# EAGLE library part MIMXRT117HDVMAA (library ICs)
ARM® Cortex®-M4, Cortex®-M7 RT1170 Microcontroller IC 32-Bit Dual-Core 400MHz, 1GHz 256KB (256K x 8) ROM 289-LFBGA (14x14)
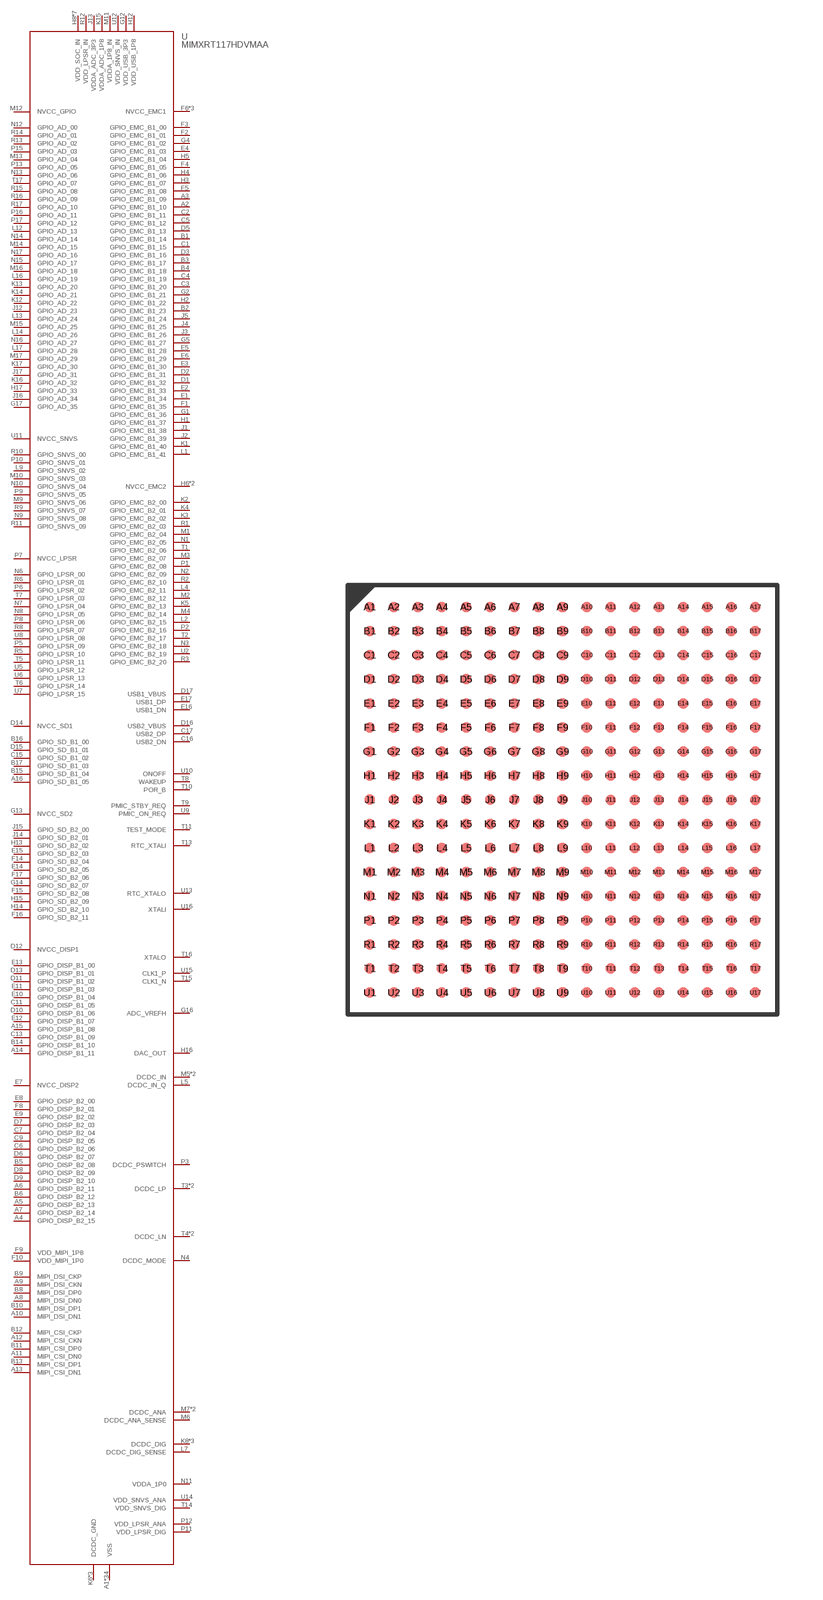
[diagram p312: symbol with the pads of MAPBGA289; footprint MAPBGA289]

Designator prefix U

## MIMXRT117HDVMAA (DIGIKEY: 568-MIMXRT117HDVMAA-ND; HEIGHT: 1.4; PRICE_PER: 22.97; VALUE: MIMXRT117HDVMAA)  [MAPBGA289]
A1  VSS  pas
A2  GPIO_EMC_B1_10  pas
A3  GPIO_EMC_B1_09  pas
A4  GPIO_DISP_B2_15  pas
A5  GPIO_DISP_B2_13  pas
A6  GPIO_DISP_B2_11  pas
A7  GPIO_DISP_B2_14  pas
A8  MIPI_DSI_DN0  pas
A9  MIPI_DSI_CKN  pas
A10  MIPI_DSI_DN1  pas
A11  MIPI_CSI_DN0  pas
A12  MIPI_CSI_CKN  pas
A13  MIPI_CSI_DN1  pas
A14  GPIO_DISP_B1_11  pas
A15  GPIO_DISP_B1_08  pas
A16  GPIO_SD_B1_05  pas
A17  VSS  pas
B1  GPIO_EMC_B1_14  pas
B2  GPIO_EMC_B1_23  pas
B3  GPIO_EMC_B1_17  pas
B4  GPIO_EMC_B1_18  pas
B5  GPIO_DISP_B2_08  pas
B6  GPIO_DISP_B2_12  pas
B7  VSS  pas
B8  MIPI_DSI_DP0  pas
B9  MIPI_DSI_CKP  pas
B10  MIPI_DSI_DP1  pas
B11  MIPI_CSI_DP0  pas
B12  MIPI_CSI_CKP  pas
B13  MIPI_CSI_DP1  pas
B14  GPIO_DISP_B1_10  pas
B15  GPIO_SD_B1_04  pas
B16  GPIO_SD_B1_00  pas
B17  GPIO_SD_B1_03  pas
C1  GPIO_EMC_B1_15  pas
C2  GPIO_EMC_B1_11  pas
C3  GPIO_EMC_B1_20  pas
C4  GPIO_EMC_B1_19  pas
C5  GPIO_EMC_B1_12  pas
C6  GPIO_DISP_B2_06  pas
C7  GPIO_DISP_B2_04  pas
C8  VSS  pas
C9  GPIO_DISP_B2_05  pas
C10  VSS  pas
C11  GPIO_DISP_B1_05  pas
C12  VSS  pas
C13  GPIO_DISP_B1_09  pas
C14  VSS  pas
C15  GPIO_SD_B1_02  pas
C16  USB2_DN  pas
C17  USB2_DP  pas
D1  GPIO_EMC_B1_32  pas
D2  GPIO_EMC_B1_31  pas
D3  GPIO_EMC_B1_16  pas
D4  VSS  pas
D5  GPIO_EMC_B1_13  pas
D6  GPIO_DISP_B2_07  pas
D7  GPIO_DISP_B2_03  pas
D8  GPIO_DISP_B2_09  pas
D9  GPIO_DISP_B2_10  pas
D10  GPIO_DISP_B1_06  pas
D11  GPIO_DISP_B1_02  pas
D12  NVCC_DISP1  pas
D13  GPIO_DISP_B1_01  pas
D14  NVCC_SD1  pas
D15  GPIO_SD_B1_01  pas
D16  USB2_VBUS  pas
D17  USB1_VBUS  pas
E1  GPIO_EMC_B1_34  pas
E2  GPIO_EMC_B1_33  pas
E3  GPIO_EMC_B1_30  pas
E4  GPIO_EMC_B1_03  pas
E5  GPIO_EMC_B1_28  pas
E6  GPIO_EMC_B1_29  pas
E7  NVCC_DISP2  pas
E8  GPIO_DISP_B2_00  pas
E9  GPIO_DISP_B2_02  pas
E10  GPIO_DISP_B1_04  pas
E11  GPIO_DISP_B1_03  pas
E12  GPIO_DISP_B1_07  pas
E13  GPIO_DISP_B1_00  pas
E14  GPIO_SD_B2_05  pas
E15  GPIO_SD_B2_03  pas
E16  USB1_DN  pas
E17  USB1_DP  pas
F1  GPIO_EMC_B1_35  pas
F2  GPIO_EMC_B1_01  pas
F3  GPIO_EMC_B1_00  pas
F4  GPIO_EMC_B1_05  pas
F5  GPIO_EMC_B1_08  pas
F6  NVCC_EMC1  pas
F7  NVCC_EMC1  pas
F8  GPIO_DISP_B2_01  pas
F9  VDD_MIPI_1P8  pas
F10  VDD_MIPI_1P0  pas
F11  VSS  pas
F12  VSS  pas
F13  VSS  pas
F14  GPIO_SD_B2_04  pas
F15  GPIO_SD_B2_08  pas
F16  GPIO_SD_B2_11  pas
F17  GPIO_SD_B2_06  pas
G1  GPIO_EMC_B1_36  pas
G2  GPIO_EMC_B1_21  pas
G3  VSS  pas
G4  GPIO_EMC_B1_02  pas
G5  GPIO_EMC_B1_27  pas
G6  NVCC_EMC1  pas
G7  VSS  pas
G8  VSS  pas
G9  VSS  pas
G10  VSS  pas
G11  VSS  pas
G12  VDD_USB_3P3  pas
G13  NVCC_SD2  pas
G14  GPIO_SD_B2_07  pas
G15  VSS  pas
G16  ADC_VREFH  pas
G17  GPIO_AD_35  pas
H1  GPIO_EMC_B1_37  pas
H2  GPIO_EMC_B1_22  pas
H3  GPIO_EMC_B1_07  pas
H4  GPIO_EMC_B1_06  pas
H5  GPIO_EMC_B1_04  pas
H6  NVCC_EMC2  pas
H7  VSS  pas
H8  VDD_SOC_IN  pas
H9  VDD_SOC_IN  pas
H10  VDD_SOC_IN  pas
H11  VSS  pas
H12  VDD_USB_1P8  pas
H13  GPIO_SD_B2_02  pas
H14  GPIO_SD_B2_10  pas
H15  GPIO_SD_B2_09  pas
H16  DAC_OUT  pas
H17  GPIO_AD_33  pas
J1  GPIO_EMC_B1_38  pas
J2  GPIO_EMC_B1_39  pas
J3  GPIO_EMC_B1_26  pas
J4  GPIO_EMC_B1_25  pas
J5  GPIO_EMC_B1_24  pas
J6  NVCC_EMC2  pas
J7  VSS  pas
J8  VDD_SOC_IN  pas
J9  VDD_SOC_IN  pas
J10  VDD_SOC_IN  pas
J11  VSS  pas
J12  GPIO_AD_23  pas
J13  VDDA_ADC_3P3  pas
J14  GPIO_SD_B2_01  pas
J15  GPIO_SD_B2_00  pas
J16  GPIO_AD_34  pas
J17  GPIO_AD_31  pas
K1  GPIO_EMC_B1_40  pas
K2  GPIO_EMC_B2_00  pas
K3  GPIO_EMC_B2_02  pas
K4  GPIO_EMC_B2_01  pas
K5  GPIO_EMC_B2_13  pas
K6  DCDC_GND  pas
K7  DCDC_GND  pas
K8  DCDC_DIG  pas
K9  DCDC_DIG  pas
K10  VDD_SOC_IN  pas
K11  VSS  pas
K12  GPIO_AD_22  pas
K13  GPIO_AD_20  pas
K14  GPIO_AD_21  pas
K15  VDDA_ADC_1P8  pas
K16  GPIO_AD_32  pas
K17  GPIO_AD_30  pas
L1  GPIO_EMC_B1_41  pas
L2  GPIO_EMC_B2_15  pas
L3  VSS  pas
L4  GPIO_EMC_B2_11  pas
L5  DCDC_IN_Q  pas
L6  DCDC_GND  pas
L7  DCDC_DIG_SENSE  pas
L8  DCDC_DIG  pas
L9  GPIO_SNVS_02  pas
L10  VSS  pas
L11  VSS  pas
L12  GPIO_AD_13  pas
L13  GPIO_AD_24  pas
L14  GPIO_AD_26  pas
L15  VSS  pas
L16  GPIO_AD_19  pas
L17  GPIO_AD_28  pas
M1  GPIO_EMC_B2_04  pas
M2  GPIO_EMC_B2_12  pas
M3  GPIO_EMC_B2_07  pas
M4  GPIO_EMC_B2_14  pas
M5  DCDC_IN  pas
M6  DCDC_ANA_SENSE  pas
M7  DCDC_ANA  pas
M8  DCDC_ANA  pas
M9  GPIO_SNVS_06  pas
M10  GPIO_SNVS_03  pas
M11  VDDA_1P8_IN  pas
M12  NVCC_GPIO  pas
M13  GPIO_AD_04  pas
M14  GPIO_AD_15  pas
M15  GPIO_AD_25  pas
M16  GPIO_AD_18  pas
M17  GPIO_AD_29  pas
N1  GPIO_EMC_B2_05  pas
N2  GPIO_EMC_B2_09  pas
N3  GPIO_EMC_B2_18  pas
N4  DCDC_MODE  pas
N5  DCDC_IN  pas
N6  GPIO_LPSR_00  pas
N7  GPIO_LPSR_04  pas
N8  GPIO_LPSR_05  pas
N9  GPIO_SNVS_08  pas
N10  GPIO_SNVS_04  pas
N11  VDDA_1P0  pas
N12  GPIO_AD_00  pas
N13  GPIO_AD_06  pas
N14  GPIO_AD_14  pas
N15  GPIO_AD_17  pas
N16  GPIO_AD_27  pas
N17  GPIO_AD_16  pas
P1  GPIO_EMC_B2_08  pas
P2  GPIO_EMC_B2_16  pas
P3  DCDC_PSWITCH  pas
P4  VSS  pas
P5  GPIO_LPSR_09  pas
P6  GPIO_LPSR_02  pas
P7  NVCC_LPSR  pas
P8  GPIO_LPSR_06  pas
P9  GPIO_SNVS_05  pas
P10  GPIO_SNVS_01  pas
P11  VDD_LPSR_DIG  pas
P12  VDD_LPSR_ANA  pas
P13  GPIO_AD_05  pas
P14  VSS  pas
P15  GPIO_AD_03  pas
P16  GPIO_AD_11  pas
P17  GPIO_AD_12  pas
R1  GPIO_EMC_B2_03  pas
R2  GPIO_EMC_B2_10  pas
R3  GPIO_EMC_B2_20  pas
R4  VSS  pas
R5  GPIO_LPSR_10  pas
R6  GPIO_LPSR_01  pas
R7  VSS  pas
R8  GPIO_LPSR_07  pas
R9  GPIO_SNVS_07  pas
R10  GPIO_SNVS_00  pas
R11  GPIO_SNVS_09  pas
R12  VDD_LPSR_IN  pas
R13  GPIO_AD_02  pas
R14  GPIO_AD_01  pas
R15  GPIO_AD_08  pas
R16  GPIO_AD_09  pas
R17  GPIO_AD_10  pas
T1  GPIO_EMC_B2_06  pas
T2  GPIO_EMC_B2_17  pas
T3  DCDC_LP  pas
T4  DCDC_LN  pas
T5  GPIO_LPSR_11  pas
T6  GPIO_LPSR_14  pas
T7  GPIO_LPSR_03  pas
T8  WAKEUP  pas
T9  PMIC_STBY_REQ  pas
T10  POR_B  pas
T11  TEST_MODE  pas
T12  VSS  pas
T13  RTC_XTALI  pas
T14  VDD_SNVS_DIG  pas
T15  CLK1_N  pas
T16  XTALO  pas
T17  GPIO_AD_07  pas
U1  VSS  pas
U2  GPIO_EMC_B2_19  pas
U3  DCDC_LP  pas
U4  DCDC_LN  pas
U5  GPIO_LPSR_12  pas
U6  GPIO_LPSR_13  pas
U7  GPIO_LPSR_15  pas
U8  GPIO_LPSR_08  pas
U9  PMIC_ON_REQ  pas
U10  ONOFF  pas
U11  NVCC_SNVS  pas
U12  VDD_SNVS_IN  pas
U13  RTC_XTALO  pas
U14  VDD_SNVS_ANA  pas
U15  CLK1_P  pas
U16  XTALI  pas
U17  VSS  pas

## Footprint MAPBGA289 (pad centres in mm)
smd 0.356 x 0.356: A1 -6.4,6.401; A2 -5.6,6.401; A3 -4.8,6.401; A4 -4,6.401; A5 -3.2,6.401; A6 -2.4,6.401; A7 -1.6,6.401; A8 -0.8,6.401; A9 0,6.401; A10 0.8,6.4; A11 1.6,6.4; A12 2.4,6.4; A13 3.2,6.4; A14 4,6.4; A15 4.8,6.4; A16 5.6,6.4; A17 6.4,6.4; B1 -6.4,5.601; B2 -5.6,5.601; B3 -4.8,5.601; B4 -4,5.601; B5 -3.2,5.601; B6 -2.4,5.601; B7 -1.6,5.601; B8 -0.8,5.601; B9 0,5.601; B10 0.8,5.6; B11 1.6,5.6; B12 2.4,5.6; B13 3.2,5.6; B14 4,5.6; B15 4.8,5.6; B16 5.6,5.6; B17 6.4,5.6; C1 -6.4,4.801; C2 -5.6,4.801; C3 -4.8,4.801; C4 -4,4.801; C5 -3.2,4.801; C6 -2.4,4.801; C7 -1.6,4.801; C8 -0.8,4.801; C9 0,4.801; C10 0.8,4.8; C11 1.6,4.8; C12 2.4,4.8; C13 3.2,4.8; C14 4,4.8; C15 4.8,4.8; C16 5.6,4.8; C17 6.4,4.8; D1 -6.4,4.001; D2 -5.6,4.001; D3 -4.8,4.001; D4 -4,4.001; D5 -3.2,4.001; D6 -2.4,4.001; D7 -1.6,4.001; D8 -0.8,4.001; D9 0,4.001; D10 0.8,4; D11 1.6,4; D12 2.4,4; D13 3.2,4; D14 4,4; D15 4.8,4; D16 5.6,4; D17 6.4,4; E1 -6.4,3.201; E2 -5.6,3.201; E3 -4.8,3.201; E4 -4,3.201; E5 -3.2,3.201; E6 -2.4,3.201; E7 -1.6,3.201; E8 -0.8,3.201; E9 0,3.201; E10 0.8,3.2; E11 1.6,3.2; E12 2.4,3.2; E13 3.2,3.2; E14 4,3.2; E15 4.8,3.2; E16 5.6,3.2; E17 6.4,3.2; F1 -6.4,2.401; F2 -5.6,2.401; F3 -4.8,2.401; F4 -4,2.401; F5 -3.2,2.401; F6 -2.4,2.401; F7 -1.6,2.401; F8 -0.8,2.401; F9 0,2.401; F10 0.8,2.4; F11 1.6,2.4; F12 2.4,2.4; F13 3.2,2.4; F14 4,2.4; F15 4.8,2.4; F16 5.6,2.4; F17 6.4,2.4; G1 -6.4,1.601; G2 -5.6,1.601; G3 -4.8,1.601; G4 -4,1.601; G5 -3.2,1.601; G6 -2.4,1.601; G7 -1.6,1.601; G8 -0.8,1.601; G9 0,1.601; G10 0.8,1.6; G11 1.6,1.6; G12 2.4,1.6; G13 3.2,1.6; G14 4,1.6; G15 4.8,1.6; G16 5.6,1.6; G17 6.4,1.6; H1 -6.4,0.8; H2 -5.6,0.8; H3 -4.8,0.8; H4 -4,0.8; H5 -3.2,0.8; H6 -2.4,0.8; H7 -1.6,0.8; H8 -0.8,0.8; H9 0,0.8; H10 0.8,0.8; H11 1.6,0.8; H12 2.4,0.8; H13 3.2,0.8; H14 4,0.8; H15 4.8,0.8; H16 5.6,0.8; H17 6.4,0.8; J1 -6.4,0; J2 -5.6,0; J3 -4.8,0; J4 -4,0; J5 -3.2,0; J6 -2.4,0; J7 -1.6,0; J8 -0.8,0; J9 0,0; J10 0.8,0; J11 1.6,0; J12 2.4,0; J13 3.2,0; J14 4,-0.001; J15 4.8,-0.001; J16 5.6,-0.001; J17 6.4,-0.001; K1 -6.4,-0.8; K2 -5.6,-0.8; K3 -4.8,-0.8; K4 -4,-0.8; K5 -3.2,-0.8; K6 -2.4,-0.8; K7 -1.6,-0.8; K8 -0.8,-0.8; K9 0,-0.8; K10 0.8,-0.8; K11 1.6,-0.8; K12 2.4,-0.8; K13 3.2,-0.8; K14 4,-0.8; K15 4.8,-0.8; K16 5.6,-0.8; K17 6.4,-0.8; L1 -6.4,-1.6; L2 -5.6,-1.6; L3 -4.8,-1.6; L4 -4,-1.6; L5 -3.2,-1.6; L6 -2.4,-1.6; L7 -1.6,-1.6; L8 -0.8,-1.6; L9 0,-1.6; L10 0.8,-1.601; L11 1.6,-1.601; L12 2.4,-1.601; L13 3.2,-1.601; L14 4,-1.601; L15 4.8,-1.601; L16 5.6,-1.601; L17 6.4,-1.601; M1 -6.4,-2.4; M2 -5.6,-2.4; M3 -4.8,-2.4; M4 -4,-2.4; M5 -3.2,-2.4; M6 -2.4,-2.4; M7 -1.6,-2.4; M8 -0.8,-2.4; M9 0,-2.4; M10 0.8,-2.401; M11 1.6,-2.401; M12 2.4,-2.401; M13 3.2,-2.401; M14 4,-2.401; M15 4.8,-2.401; M16 5.6,-2.401; M17 6.4,-2.401; N1 -6.4,-3.2; N2 -5.6,-3.2; N3 -4.8,-3.2; N4 -4,-3.2; N5 -3.2,-3.2; N6 -2.4,-3.2; N7 -1.6,-3.2; N8 -0.8,-3.2; N9 0,-3.2; N10 0.8,-3.201; N11 1.6,-3.201; N12 2.4,-3.201; N13 3.2,-3.201; N14 4,-3.201; N15 4.8,-3.201; N16 5.6,-3.201; N17 6.4,-3.201; P1 -6.4,-4; P2 -5.6,-4; P3 -4.8,-4; P4 -4,-4; P5 -3.2,-4; P6 -2.4,-4; P7 -1.6,-4; P8 -0.8,-4; P9 0,-4; P10 0.8,-4.001; P11 1.6,-4.001; P12 2.4,-4.001; P13 3.2,-4.001; P14 4,-4.001; P15 4.8,-4.001; P16 5.6,-4.001; P17 6.4,-4.001; R1 -6.4,-4.8; R2 -5.6,-4.8; R3 -4.8,-4.8; R4 -4,-4.8; R5 -3.2,-4.8; R6 -2.4,-4.8; R7 -1.6,-4.8; R8 -0.8,-4.8; R9 0,-4.8; R10 0.8,-4.801; R11 1.6,-4.801; R12 2.4,-4.801; R13 3.2,-4.801; R14 4,-4.801; R15 4.8,-4.801; R16 5.6,-4.801; R17 6.4,-4.801; T1 -6.4,-5.6; T2 -5.6,-5.6; T3 -4.8,-5.6; T4 -4,-5.6; T5 -3.2,-5.6; T6 -2.4,-5.6; T7 -1.6,-5.6; T8 -0.8,-5.6; T9 0,-5.6; T10 0.8,-5.601; T11 1.6,-5.601; T12 2.4,-5.601; T13 3.2,-5.601; T14 4,-5.601; T15 4.8,-5.601; T16 5.6,-5.601; T17 6.4,-5.601; U1 -6.4,-6.4; U2 -5.6,-6.4; U3 -4.8,-6.4; U4 -4,-6.4; U5 -3.2,-6.4; U6 -2.4,-6.4; U7 -1.6,-6.4; U8 -0.8,-6.4; U9 0,-6.4; U10 0.8,-6.401; U11 1.6,-6.401; U12 2.4,-6.401; U13 3.2,-6.401; U14 4,-6.401; U15 4.8,-6.401; U16 5.6,-6.401; U17 6.4,-6.401